# Altium schematic symbol library A.Shelestov_Connectors.SchLib: 1 symbol
Pins are listed as number, name and electrical type; pins without a type are passive.

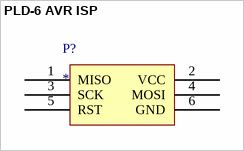
[diagram p0: symbol PLD-6 AVR ISP]

## PLD-6 AVR ISP
designator P?
footprint HEADER 2x3 2.54 AVR ISP
pins: 1 MISO, 2 VCC, 3 SCK, 4 MOSI, 5 RST, 6 GND